# EAGLE library part LM2678SX-ADJ/NOPB (library X14-Conversion_Library)
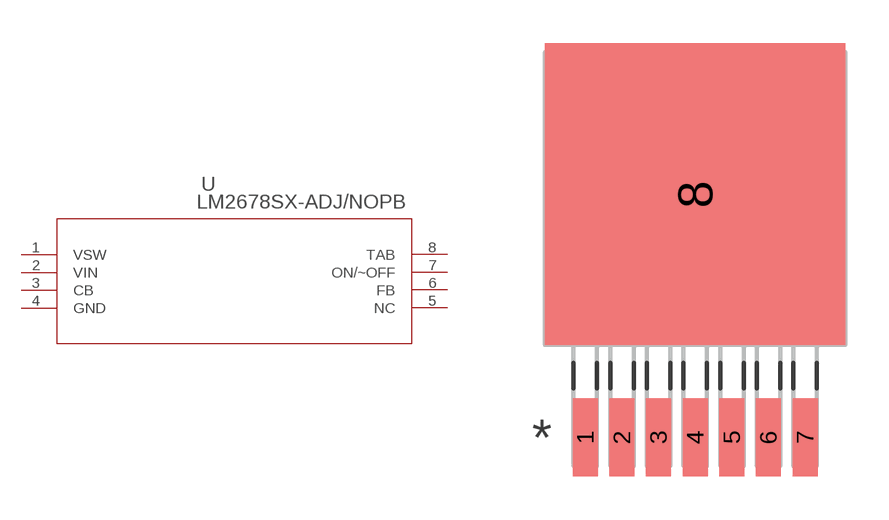
[diagram p0: symbol with the pads of TS7B; footprint TS7B]

Designator prefix U

## LM2678SX-ADJ/NOPBTS7B (COPYRIGHT: Copyright (C) 2021 Ultra Librarian. All rights reserved.; DIGI-KEY_PART_NUMBER_1: LM2678SX-ADJ/NOPBCT-ND; DIGI-KEY_PART_NUMBER_2: LM2678SX-ADJ/NOPBDKR-ND; DIGI-KEY_PART_NUMBER_3: LM2678SX-ADJ/NOPBTR-ND; DIGI-KEY_PART_NUMBER_4: 2156-LM2678SX-ADJ/NOPB-ND; MANUFACTURER_PART_NUMBER: LM2678SX-ADJ/NOPB; MFR_NAME: Texas Instruments; TYPE: LM2678S-12)  [TS7B]
1  VSW  out
2  VIN  in
3  CB  pas
4  GND  pas
5  NC  pas
6  FB  pas
7  ON/~OFF  pas
8  TAB  pas

## Footprint TS7B (pad centres in mm)
smd 0.864 x 2.692: 1 -3.81,-8.28; 2 -2.54,-8.28; 3 -1.27,-8.28; 4 0,-8.28; 5 1.27,-8.28; 6 2.54,-8.28; 7 3.81,-8.28
smd 10.414 x 10.465: 8 0,0.152